# Altium schematic symbol library 1317A33-M5T1U4.SchLib: 1 symbol
Pins are listed as number, name and electrical type; pins without a type are passive.

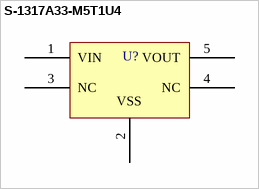
[diagram p0: symbol S-1317A33-M5T1U4]

## S-1317A33-M5T1U4
designator U?
footprint S-1317A33-M5T1U4
pins: 1 VIN, 2 VSS, 3 NC, 4 NC, 5 VOUT